# Altium schematic symbol library PCB_Project_FlightModel_EPS.SCHLIB: 82 symbols
Pins are listed as number, name and electrical type; pins without a type are passive.

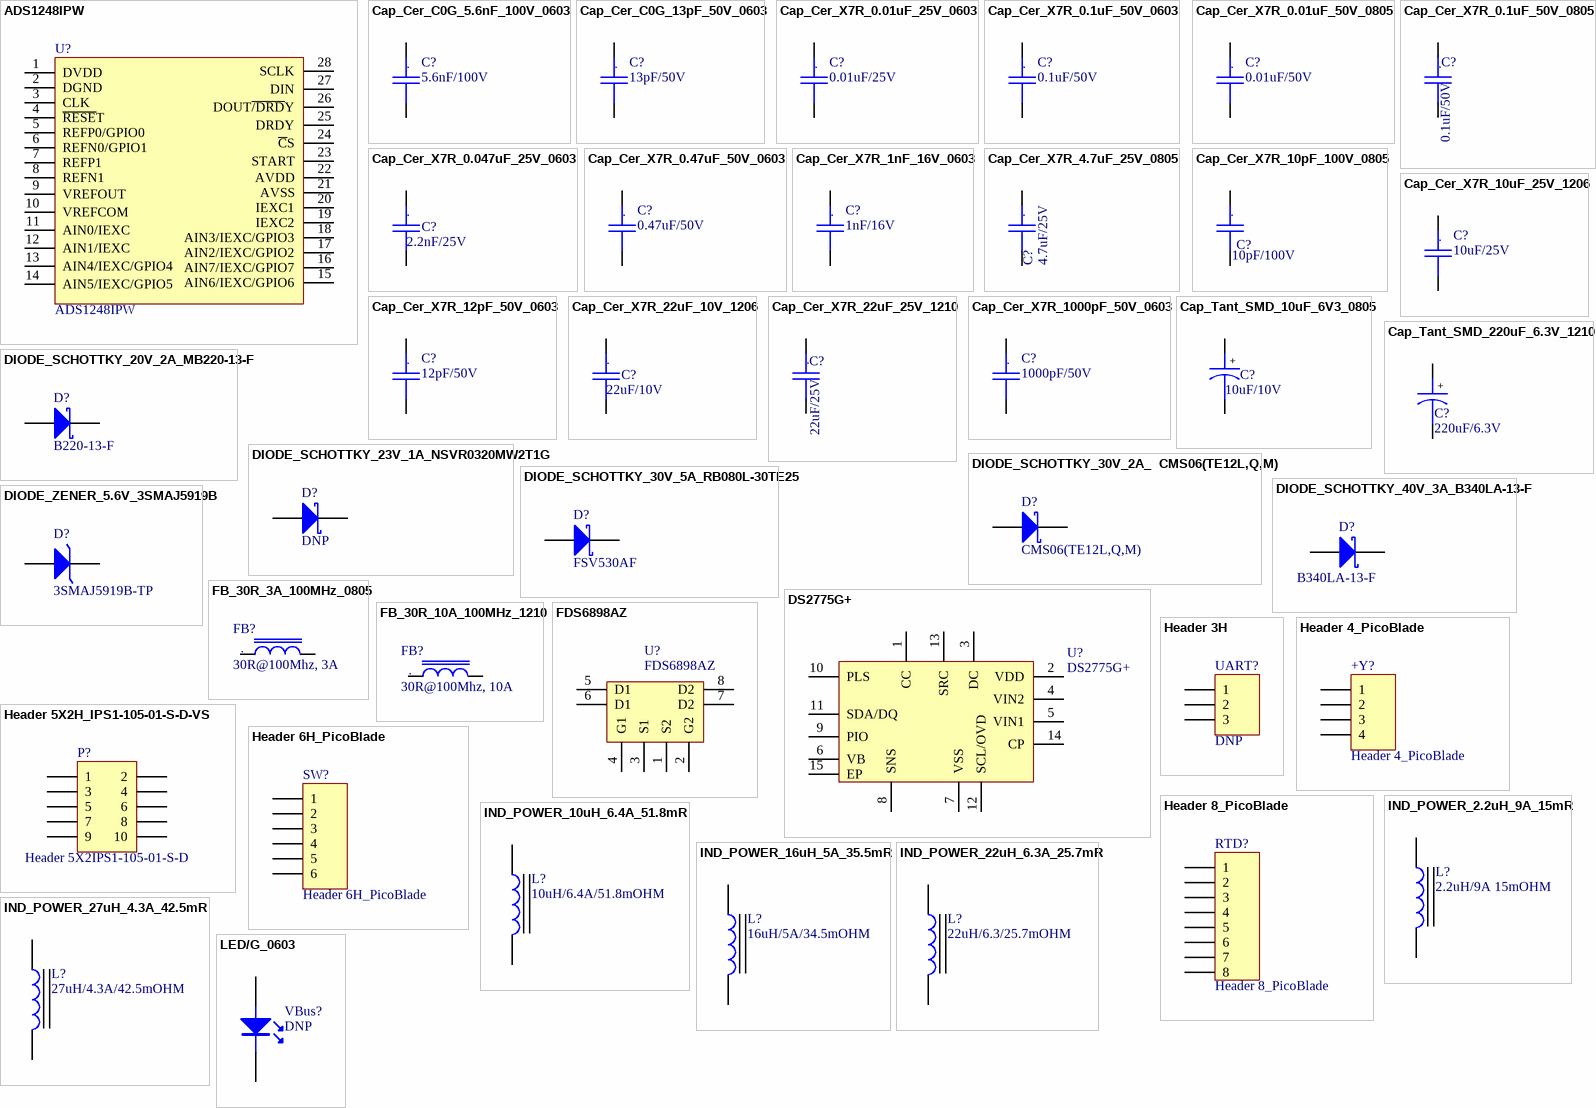
[diagram p0: symbols ADS1248IPW to LED/G_0603]

## ADS1248IPW
designator U?
24 bit ADC Differential Input, SPI, 28-pin TSSOP; Manufacturer: Texas Instruments; Part_Number: ADS1248IPWR; Number of Bits: 24; Sampling Rate (Per Second): 2k; Number of Inputs: 4, 7; Input Type: Differential, Single Ended; Configuration: MUX-PGA-ADC; Number of A/D Converters: 1; Architecture: Sigma-Delta; Reference Type: External, Internal; Voltage - Supply, Analog: 2.7 V ~ 5.25 V; Datasheet: *; Supplier: RS Online; Supplier_Link: http://uk.rs-online.com/web/p/general-purpose-adcs/7091921/?searchTerm=ads1248&relevancy-data=636F3D3226696E3D4931384E4B6E6F776E41734D504E266C753D656E266D6D3D6D61746368616C6C7061727469616C26706D3D5E5B5C707B4C7D5C707B4E647D2D2C2F255C2E5D2B2426706F3D313326736E3D592673743D4D414E5F504152545F4E554D4245522677633D424F5448267573743D6164733132343826; Supplier_Part_Number: 709-1921; Price: £7.51; Supplier 1: Digi-Key; Manufacturer Part Number: ADS1248IPW; RoHS: RoHS Compliant; Category: Integrated Circuits (ICs); Stock 1: 1835; Pricing 1: 1=10.49, 10=9.535, 25=8.822, 50=8.3402, 100=8.0994, 250=7.38576, 500=6.91298, 750=6.58295, 1000=5.96079 (EUR); Packaging: Tube; Data Interface: SPI; Ratio - S/H:ADC: -; Voltage - Supply, Digital: 2.7 V ~ 5.25 V; Features: PGA, Temperature Sensor; Operating Temperature: -40°C ~ 105°C; Package / Case: 28-TSSOP (0.173", 4.40mm Width); Supplier Device Package: 28-TSSOP; ComponentLink1URL: http://www.ti.com/lit/ds/symlink/ads1246.pdf; ComponentLink1Description: http://www.ti.com/lit/ds/symlink/ads1246.pdf; Supplier 2: Farnell; Supplier 3: Newark; Supplier Part Number 1: 296-24294-5-ND; Supplier Part Number 2: 1735557; Supplier Part Number 3: 05R0320; partnumber: ADS1248IPWR
footprint TSSOP28 (TSOP, 28-Leads, Body 6.50x4.40mm, Pitch 0.65mm, IPC Medium Density)
pins: 1 DVDD (power), 2 DGND (power), 3 CLK, 4 ~{RESE}T, 5 REFP0/GPIO0, 6 REFN0/GPIO1, 7 REFP1, 8 REFN1, 9 VREFOUT, 10 VREFCOM, 11 AIN0/IEXC, 12 AIN1/IEXC, 13 AIN4/IEXC/GPIO4, 14 AIN5/IEXC/GPIO5, 15 AIN6/IEXC/GPIO6 (power), 16 AIN7/IEXC/GPIO7 (power), 17 AIN2/IEXC/GPIO2, 18 AIN3/IEXC/GPIO3, 19 IEXC2, 20 IEXC1, 21 AVSS, 22 AVDD, 23 START, 24 ~{C}S, 25 DRDY, 26 DOUT~{/DRD}Y, 27 DIN, 28 SCLK

## Cap_Cer_C0G_5.6nF_100V_0603
designator C?, comment 5.6nF/100V
CAP CER 5.6nF 100V 0603; Partnumber: C1608C0G2A562J080AE; NCM: 8532.24.10
footprint CC0603 (TDK mlccspec_commercial_general_midvoltage_en.pdf)
pins: 1, 2
text: .

## Cap_Cer_C0G_13pF_50V_0603
designator C?, comment 13pF/50V
CAP CER 13PF 50V 0603 NP0; Partnumber: C0603C130J5GAC7867; NCM: 8532.24.10
footprint CC0603 (TDK mlccspec_commercial_general_midvoltage_en.pdf)
pins: 1, 2
text: .

## Cap_Cer_X7R_0.01uF_25V_0603
designator C?, comment 0.01uF/25V
CAP CER 0.01UF 25V 5% X7R 0603; Partnumber: 06033C103JAT4A; NCM: 8532.24.10
footprint CC0603 (TDK mlccspec_commercial_general_midvoltage_en.pdf)
pins: 1, 2
text: .

## Cap_Cer_X7R_0.1uF_50V_0603
designator C?, comment 0.1uF/50V
CAP CER 0.1UF 50V 10% X7R 0603; Partnumber: CC0603KPX7R9BB104
footprint CC0603 (TDK mlccspec_commercial_general_midvoltage_en.pdf)
pins: 1, 2
text: .

## Cap_Cer_X7R_0.01uF_50V_0805
designator C?, comment 0.01uF/50V
CAP CER 0.01uF 50V 10% X7R 0805; Partnumber: 08055C103KAT4A; NCM: 8532.24.10
footprint CC0805 (TDK mlccspec_commercial_general_midvoltage_en.pdf)
pins: 1, 2
text: .

## Cap_Cer_X7R_0.1uF_50V_0805
designator C?, comment 0.1uF/50V
CAP CER 0.1UF 50V 10% X7R 0805; Partnumber: CC0805KRX7R9BB104
footprint CC0805 (TDK mlccspec_commercial_general_midvoltage_en.pdf)
pins: 1, 2
text: .

## Cap_Cer_X7R_0.047uF_25V_0603
designator C?, comment 2.2nF/25V
CAP CER 0.047UF 25V 0603; Partnumber: GCM188R71E473KA37D; NCM: 8532.24.10
footprint CC0603 (TDK mlccspec_commercial_general_midvoltage_en.pdf)
pins: 1, 2
text: .

## Cap_Cer_X7R_0.47uF_50V_0603
designator C?, comment 0.47uF/50V
CAP CER 0.47UF 50V 10% X7R 0603; Partnumber: C1608X7R1H474K080AE; NCM: 8532.24.10
footprint CC0603 (TDK mlccspec_commercial_general_midvoltage_en.pdf)
pins: 1, 2
text: .

## Cap_Cer_X7R_1nF_16V_0603
designator C?, comment 1nF/16V
CAP CER 1nF 16V 0603 5%; Partnumber: C0603X102J4RECAUTO; NCM: 8532.24.10
footprint CC0805
pins: 1, 2
text: .

## Cap_Cer_X7R_4.7uF_25V_0805
designator C?, comment 4.7uF/25V
CAP CER 4.7uF 25V 10% X7R 0805; Partnumber: CC0805KKX7R8BB475; NCM: 8532.24.10
footprint CC0805 (TDK mlccspec_commercial_general_midvoltage_en.pdf)
pins: 1, 2
text: .

## Cap_Cer_X7R_10pF_100V_0805
designator C?, comment 10pF/100V
CAP CER 10pF 100V 0805; Partnumber: 08051A100FAT2A; NCM: 8532.24.10
footprint CC0805 (TDK mlccspec_commercial_general_midvoltage_en.pdf)
pins: 1, 2
text: .

## Cap_Cer_X7R_10uF_25V_1206
designator C?, comment 10uF/25V
CAP CER 10uF 25V 10% X7R 1206; Partnumber: GRM31CR71E106KA12L; NCM: 8532.24.10
footprint CC1206 (TDK mlccspec_commercial_general_midvoltage_en.pdf)
pins: 1, 2
text: .

## Cap_Cer_X7R_12pF_50V_0603
designator C?, comment 12pF/50V
CAP CER 12pF 50V 0603; Partnumber: GQM1885C1H120GB01D; NCM: 8532.24.10
footprint CC0603 (TDK mlccspec_commercial_general_midvoltage_en.pdf)
pins: 1, 2
text: .

## Cap_Cer_X7R_22uF_10V_1206
designator C?, comment 22uF/10V
CAP CER 22uF 10V 10% X7R 1206; Partnumber: GRM31CR71A226KE15L; NCM: 8532.24.10
footprint CC1206 (TDK mlccspec_commercial_general_midvoltage_en.pdf)
pins: 1, 2
text: .

## Cap_Cer_X7R_22uF_25V_1210
designator C?, comment 22uF/25V
CAP CER 22uF 25V 10% X7R 1210; Partnumber: GRM32ER71E226KE15L
footprint CC1210 (TDK mlccspec_commercial_general_midvoltage_en.pdf)
pins: 1, 2
text: .

## Cap_Cer_X7R_1000pF_50V_0603
designator C?, comment 1000pF/50V
CAP CER 1000pF 50V 10% X7R 0603; Partnumber: CC0603KRX7R9BB102; NCM: 8532.24.10
footprint CC0603 (TDK mlccspec_commercial_general_midvoltage_en.pdf)
pins: 1, 2
text: .

## Cap_Tant_SMD_10uF_6V3_0805
designator C?, comment 10uF/10V
CAP Tantalum 10uF 6.3V 10% 0805; Partnumber: TPSR106K006R1000; NCM: 8532.21.11
footprint CC0805_Tantalum (TDK mlccspec_commercial_general_midvoltage_en.pdf)
pins: 1, 2
text: +

## Cap_Tant_SMD_220uF_6.3V_1210
designator C?, comment 220uF/6.3V
CAP Tantalum 220uF 6.3V 20% 1210; Partnumber: 6TPE220MAZB; NCM: 8532.21.11
footprint cc1210 (TDK mlccspec_commercial_general_midvoltage_en.pdf)
pins: 1, 2
text: +

## DIODE_SCHOTTKY_20V_2A_MB220-13-F
designator D?, comment B220-13-F
DIODE SCHOTTKY 20V 2A B220-13-F; NCM: 8541.10.29; Partnumber: B220-13-F
footprint DO-214AA
pins: 1 K, 2 A

## DIODE_SCHOTTKY_23V_1A_NSVR0320MW2T1G
designator D?, comment DNP
DIODE SCHOTTKY 23V 1A SOD323F; Partnumber: NSVR0320MW2T1G; NCM: 8541.10.29
footprint SOD323F
pins: 1 K, 2 A

## DIODE_SCHOTTKY_30V_2A_  CMS06(TE12L,Q,M)
designator D?, comment CMS06(TE12L,Q,M)
DIODE SCHOTTKY 30V 2A   CMS06(TE12L,Q,M); NCM: 8541.10.29; Partnumber: CMS06(TE12L,Q,M)
footprint cms06
pins: 1 K, 2 A

## DIODE_SCHOTTKY_30V_5A_RB080L-30TE25
designator D?, comment FSV530AF
DIODE SCHOTTKY 30V 5A DO-214AA; NCM: 8541.10.29; Partnumber: FSV530AF
footprint DO-214AC
pins: 1 K, 2 A

## DIODE_SCHOTTKY_40V_3A_B340LA-13-F
designator D?, comment B340LA-13-F
DIODE SCHOTTKY 40V 3A B340LA-13-F; NCM: 8541.10.29; Partnumber: B340LA-13-F
footprint DO-214AC
pins: 1 K, 2 A

## DIODE_ZENER_5.6V_3SMAJ5919B
designator D?, comment 3SMAJ5919B-TP
DIODE ZENER 5.6V 3W DO214AC; Partnumber: 3SMAJ5919B-TP; NCM: 8541.10.29
footprint DO-214AC
pins: 1 K, 2 A

## DS2775G+
designator U?
IC FUEL GAUGE LI+ 2CELL 14-TDFN; Partnumber: DS2775G+
footprint TDFN-14-EP_3x5 (Footprint not found)
pins: 1 CC, 2 VDD, 3 DC, 4 VIN2, 5 VIN1, 6 VB, 7 VSS, 8 SNS, 9 PIO, 10 PLS, 11 SDA/DQ, 12 SCL/OVD, 13 SRC, 14 CP, 15 EP

## FB_30R_3A_100MHz_0805
designator FB?, comment 30R@100Mhz, 3A
Ferrite Bead 30 OHM 3A 100MHz; Partnumber: BLM21PG300SN1D; NCM: 8504.50.00
footprint IND0805
pins: 1, 2
text: .

## FB_30R_10A_100MHz_1210
designator FB?, comment 30R@100Mhz, 10A
Ferrite Bead 30 OHM 10A 100MHz; Partnumber: BLE32PN300SN1L; NCM: 8504.50.00
footprint IND1210
pins: 1, 2
text: .

## FDS6898AZ
designator U?
MOSFET 2N-CH 20V 9.4A 8SOIC; Partnumber: FDS6898AZ
footprint SOIC8
pins: 1 S2, 2 G2, 3 S1, 4 G1, 5 D1, 6 D1, 7 D2, 8 D2

## Header 3H
designator UART?, comment DNP
Header, 3-Pin, Right Angle; Partnumber: 4-103327-5; LatestRevisionDate: 17-Jul-2002; LatestRevisionNote: Re-released for DXP Platform.; Publisher: Altium Limited
footprint HDR 1X3
signal-integrity model Connector
pins: 1, 2, 3

## Header 4_PicoBlade
designator +Y?
Header, 4-Pin; PartNumber: 53398-0471; LatestRevisionDate: 17-Jul-2002; LatestRevisionNote: Re-released for DXP Platform.; Publisher: Altium Limited
footprint HDR4 PicoBlade
signal-integrity model Connector
pins: 1, 2, 3, 4

## Header 5X2H_IPS1-105-01-S-D-VS
designator P?, comment Header 5X2IPS1-105-01-S-D
10 Position Receptacle Connector 0.100" (2.54mm); LatestRevisionDate: 17-Jul-2002; LatestRevisionNote: Re-released for DXP Platform.; Publisher: Altium Limited; Partnumber: IPS1-105-01-S-D
footprint IPS1-105-01-S-D (10 Positions Header, Shrouded Connector 0.100" (2.54mm) Through Hole Gold)
signal-integrity model Connector
pins: 1, 2, 3, 4, 5, 6, 7, 8, 9, 10

## Header 6H_PicoBlade
designator SW?
Header, 6-Pin, Right Angle; Partnumber: 53398-0671; LatestRevisionDate: 17-Jul-2002; LatestRevisionNote: Re-released for DXP Platform.; Publisher: Altium Limited
footprint HDR6 PicoBlade
signal-integrity model Connector
pins: 1, 2, 3, 4, 5, 6

## Header 8_PicoBlade
designator RTD?
Header, 8-Pin; PartNumber: 53261-0871; LatestRevisionDate: 17-Jul-2002; LatestRevisionNote: Re-released for DXP Platform.; Publisher: Altium Limited
footprint HDR8 PicoBlade
signal-integrity model Connector
pins: 1, 2, 3, 4, 5, 6, 7, 8

## IND_POWER_2.2uH_9A_15mR
designator L?, comment 2.2uH/9A 15mOHM
INDUCTOR 2.2UH 9A SMD; Partnumber: SRP6540-2R2M; NCM: 8504.50.00
footprint Ind_SRP6540
pins: 1, 2

## IND_POWER_10uH_6.4A_51.8mR
designator L?, comment 10uH/6.4A/51.8mOHM
INDUCTOR 2.2UH 6.4A SMD; Partnumber: IHLP3232DZER100M11; NCM: 8504.50.00
footprint Ind_IHLP
pins: 1, 2

## IND_POWER_16uH_5A_35.5mR
designator L?, comment 16uH/5A/34.5mOHM
INDUCTOR 16UH 5A SMD; Partnumber: 7443251600; NCM: 8504.50.00
footprint IND_744325xxx
pins: 1, 2

## IND_POWER_22uH_6.3A_25.7mR
designator L?, comment 22uH/6.3/25.7mOHM
HC9 Series - 22uH / 6.3A / 25.7mOHM; Partnumber: HC9-220-R; NCM: 8504.50.00
footprint IND_HC9
pins: 1, 2

## IND_POWER_27uH_4.3A_42.5mR
designator L?, comment 27uH/4.3A/42.5mOHM
INDUCTOR 27UH 4.3A SMD; Partnumber: 7447798271; NCM: 8504.50.00
footprint IND_744325xxx
pins: 1, 2

## LED/G_0603
designator VBus?, comment DNP
SMD Green LED; Partnumber: 150060VS75000; NCM: 8541.40.21
footprint 0603-LED
pins: 1 A, 2 K

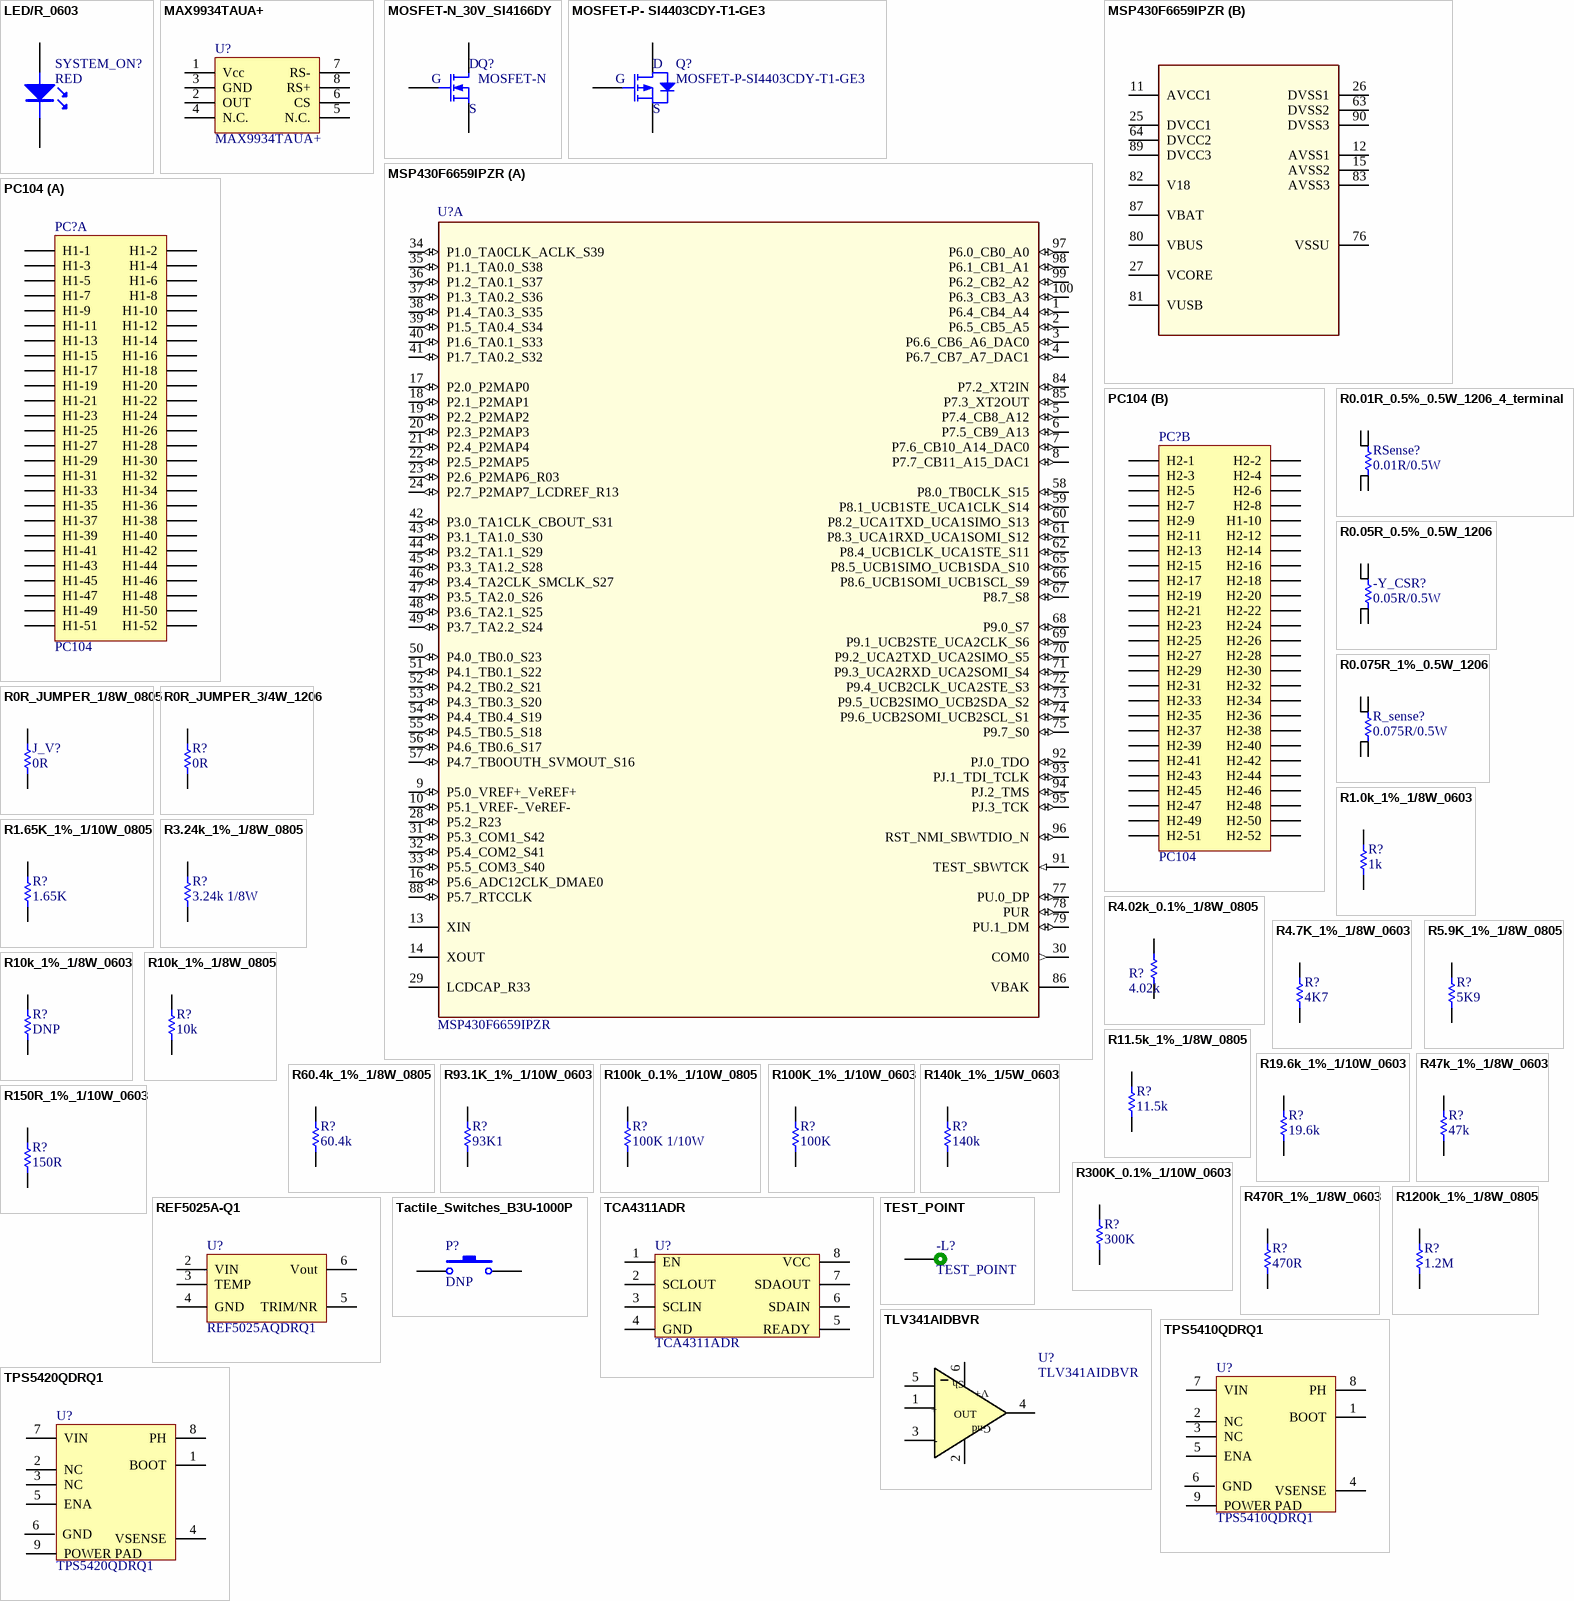
[diagram p1: symbols LED/R_0603 to TPS5420QDRQ1]

## LED/R_0603
designator SYSTEM_ON?, comment RED
SMD Red LED; Partnumber: LTST-C191KFKT; NCM: 8541.40.21
footprint 0603-LED
pins: 1 A, 2 K

## MAX9934TAUA+
designator U?
Partnumber: MAX9934TAUA+
footprint MSOP-8 (8-Lead Mini Small Outline Package [MSOP] (RM-8))
pins: 1 Vcc, 2 OUT, 3 GND, 4 N.C., 5 N.C., 6 CS, 7 RS-, 8 RS+

## MOSFET-N_30V_SI4166DY
designator Q?, comment MOSFET-N
MOSFET N-Channel 30V Vds 20V Vgs SO-8; Partnumber: SI4166DY-T1-GE3; Published: 8-Jun-2000; LatestRevisionDate: 17-Jul-2002; LatestRevisionNote: Re-released for DXP Platform.; PackageVersion: 1995/1996; PackageReference: E3; Publisher: Altium Limited; PackageDescription: TO, Flat Index; 3 In-Line, Axial Leads; Body Dia. 4.6mm; Lead Dia. 0.5 mm (max)
footprint SOIC8_Mosfet
simulation model NMOS (MOSFET-N)
pins: 1 S, 2 G, 3 D

## MOSFET-P- SI4403CDY-T1-GE3
designator Q?, comment MOSFET-P-SI4403CDY-T1-GE3
MOSFET 1.8V P-Channel 20 V, 0.0155 Ω typ., 13.4 A; Published: 8-Jun-2000; LatestRevisionDate: 17-Jul-2002; LatestRevisionNote: Re-released for DXP Platform.; PackageVersion: 1995/1996; PackageReference: E3; Publisher: Altium Limited; PackageDescription: TO, Flat Index; 3 In-Line, Axial Leads; Body Dia. 4.6mm; Lead Dia. 0.5 mm (max); Partnumber: SI4403CDY-T1-GE3
footprint SOIC8_Mosfet
simulation model NMOS (MOSFET-N)
pins: 1 S, 2 G, 3 D

## MSP430F6659IPZR
designator U?
Imported; Manufacturer: Texas Instruments; CompType: IC; PIN_COUNT: 100; Application_BuildNumber: *; PartNumber: MSP430F6659IPZR; Alternate PartNumber: MSP430F6659IPZ; PackageReference: PZ0100A; MountType: SMT; RoHS: Y; RefDes: RefDes; Type: DEV; Value: Value
footprint PZ0100A_N (Footprint not found)
part A pins: 1 P6.4_CB4_A4 (io), 2 P6.5_CB5_A5 (io), 3 P6.6_CB6_A6_DAC0 (io), 4 P6.7_CB7_A7_DAC1 (io), 5 P7.4_CB8_A12 (io), 6 P7.5_CB9_A13 (io), 7 P7.6_CB10_A14_DAC0 (io), 8 P7.7_CB11_A15_DAC1 (io), 9 P5.0_VREF+_VeREF+ (io), 10 P5.1_VREF-_VeREF- (io), 13 XIN, 14 XOUT, 16 P5.6_ADC12CLK_DMAE0 (io), 17 P2.0_P2MAP0 (io), 18 P2.1_P2MAP1 (io), 19 P2.2_P2MAP2 (io), 20 P2.3_P2MAP3 (io), 21 P2.4_P2MAP4 (io), 22 P2.5_P2MAP5 (io), 23 P2.6_P2MAP6_R03 (io), 24 P2.7_P2MAP7_LCDREF_R13 (io), 28 P5.2_R23 (io), 29 LCDCAP_R33, 30 COM0 (out), 31 P5.3_COM1_S42 (io), 32 P5.4_COM2_S41 (io), 33 P5.5_COM3_S40 (io), 34 P1.0_TA0CLK_ACLK_S39 (io), 35 P1.1_TA0.0_S38 (io), 36 P1.2_TA0.1_S37 (io), 37 P1.3_TA0.2_S36 (io), 38 P1.4_TA0.3_S35 (io), 39 P1.5_TA0.4_S34 (io), 40 P1.6_TA0.1_S33 (io), 41 P1.7_TA0.2_S32 (io), 42 P3.0_TA1CLK_CBOUT_S31 (io), 43 P3.1_TA1.0_S30 (io), 44 P3.2_TA1.1_S29 (io), 45 P3.3_TA1.2_S28 (io), 46 P3.4_TA2CLK_SMCLK_S27 (io), 47 P3.5_TA2.0_S26 (io), 48 P3.6_TA2.1_S25 (io), 49 P3.7_TA2.2_S24 (io), 50 P4.0_TB0.0_S23 (io), 51 P4.1_TB0.1_S22 (io), 52 P4.2_TB0.2_S21 (io), 53 P4.3_TB0.3_S20 (io), 54 P4.4_TB0.4_S19 (io), 55 P4.5_TB0.5_S18 (io), 56 P4.6_TB0.6_S17 (io), 57 P4.7_TB0OUTH_SVMOUT_S16 (io), 58 P8.0_TB0CLK_S15 (io), 59 P8.1_UCB1STE_UCA1CLK_S14 (io), 60 P8.2_UCA1TXD_UCA1SIMO_S13 (io), 61 P8.3_UCA1RXD_UCA1SOMI_S12 (io), 62 P8.4_UCB1CLK_UCA1STE_S11 (io), 65 P8.5_UCB1SIMO_UCB1SDA_S10 (io), 66 P8.6_UCB1SOMI_UCB1SCL_S9 (io), 67 P8.7_S8 (io), 68 P9.0_S7 (io), 69 P9.1_UCB2STE_UCA2CLK_S6 (io), 70 P9.2_UCA2TXD_UCA2SIMO_S5 (io), 71 P9.3_UCA2RXD_UCA2SOMI_S4 (io), 72 P9.4_UCB2CLK_UCA2STE_S3 (io), 73 P9.5_UCB2SIMO_UCB2SDA_S2 (io), 74 P9.6_UCB2SOMI_UCB2SCL_S1 (io), 75 P9.7_S0 (io), 77 PU.0_DP (io), 78 PUR (io), 79 PU.1_DM (io), 84 P7.2_XT2IN (io), 85 P7.3_XT2OUT (io), 86 VBAK, 88 P5.7_RTCCLK (io), 91 TEST_SBWTCK (in), 92 PJ.0_TDO (io), 93 PJ.1_TDI_TCLK (io), 94 PJ.2_TMS (io), 95 PJ.3_TCK (io), 96 RST_NMI_SBWTDIO_N (io), 97 P6.0_CB0_A0 (io), 98 P6.1_CB1_A1 (io), 99 P6.2_CB2_A2 (io), 100 P6.3_CB3_A3 (io)
part B pins: 11 AVCC1 (power), 12 AVSS1 (power), 15 AVSS2 (power), 25 DVCC1 (power), 26 DVSS1 (power), 27 VCORE (power), 63 DVSS2 (power), 64 DVCC2 (power), 76 VSSU (power), 80 VBUS (power), 81 VUSB (power), 82 V18 (power), 83 AVSS3 (power), 87 VBAT (power), 89 DVCC3 (power), 90 DVSS3 (power)

## PC104
designator PC?
Partnumber: SSW-126-01-G-D
footprint PC104 (Connector; Header; 26x4 Position)
part A pins: H1-1, H1-2, H1-3, H1-4, H1-5, H1-6, H1-7, H1-8, H1-9, H1-10, H1-11, H1-12, H1-13, H1-14, H1-15, H1-16, H1-17, H1-18, H1-19, H1-20, H1-21, H1-22, H1-23, H1-24, H1-25, H1-26, H1-27, H1-28, H1-29, H1-30, H1-31, H1-32, H1-33, H1-34, H1-35, H1-36, H1-37, H1-38, H1-39, H1-40, H1-41, H1-42, H1-43, H1-44, H1-45, H1-46, H1-47, H1-48, H1-49, H1-50, H1-51, H1-52
part B pins: H1-10, H1-32 H2-32, H1-52 H2-52, H2-1, H2-2, H2-3, H2-4, H2-5, H2-6, H2-7, H2-8, H2-9, H2-11, H2-12, H2-13, H2-14, H2-15, H2-16, H2-17, H2-18, H2-19, H2-20, H2-21, H2-22, H2-23, H2-24, H2-25, H2-26, H2-27, H2-28, H2-29, H2-30, H2-31, H2-33, H2-34, H2-35, H2-36, H2-37, H2-38, H2-39, H2-40, H2-41, H2-42, H2-43, H2-44, H2-45, H2-46, H2-47, H2-48, H2-49, H2-50, H2-51

## R0.01R_0.5%_0.5W_1206_4_terminal
designator RSense?, comment 0.01R/0.5W
Current Sense Resistors - SMD 0.01ohm .5% 4 Terminal; Partnumber: LVK12R010DER; NCM: 8533.21.20
footprint 1206 - ohmite
pins: 1, 2, 3, 4

## R0.05R_0.5%_0.5W_1206
designator -Y_CSR?, comment 0.05R/0.5W
Current Sense Resistors - SMD 0.05ohm .5% 4 Terminal; Partnumber: LVK12R050DER; NCM: 8533.21.20
footprint 1206 - ohmite
pins: 1, 2, 3, 4

## R0.075R_1%_0.5W_1206
designator R_sense?, comment 0.075R/0.5W
Current Sense Resistors - SMD 1/2W 0.075 OHMS 1% 4 Terminal; Partnumber: LVK12R075FER; NCM: 8533.21.20
footprint 1206 - ohmite
pins: 1, 2, 3, 4

## R0R_JUMPER_1/8W_0805
designator J_V?, comment 0R
RES 0R OHM 1/8W JUMPER 0805; Partnumber: CRCW08050000Z0EA
footprint 0805
pins: 1, 2

## R0R_JUMPER_3/4W_1206
designator R?, comment 0R
RES 0.0 OHM 3/4W JUMP 1206; Partnumber: HCJ1206ZT0R00
footprint 1206
pins: 1, 2

## R1.0k_1%_1/8W_0603
designator R?, comment 1k
RES 1.0K OHM 1/8W 1% 0603; Partnumber: MCT06030C1001FP500; NCM: 8533.21.20
footprint 0603
pins: 1, 2

## R1.65K_1%_1/10W_0805
designator R?, comment 1.65K
RES 1.65K OHM 1/10W 0.1% 0805; Partnumber: PCF0805R-1K65BT1; NCM: 8533.21.20
footprint 0805
pins: 1, 2

## R3.24k_1%_1/8W_0805
designator R?, comment 3.24k 1/8W
RES 3.24k OHM 1/8W 1% 0805 SMD; Partnumber: CRCW08053K24FKEA; NCM: 8533.21.20
footprint 0805
pins: 1, 2

## R4.02k_0.1%_1/8W_0805
designator R?, comment 4.02k
RES 4.02k OHM 1/8W 0.1% 0805; Partnumber: ERA-6AEB4021V; NCM: 8533.21.20
footprint 0805
pins: 1, 2

## R4.7K_1%_1/8W_0603
designator R?, comment 4K7
RES 4K7 OHM 1/8W 1% 0603; Partnumber: MCT06030C4701FP500; NCM: 8533.21.20
footprint 0603
pins: 1, 2

## R5.9K_1%_1/8W_0805
designator R?, comment 5K9
RES 5K9 OHM 1/8W 1% 0805; Partnumber: 71-CRCW0805-5.9K-E3; NCM: 8533.21.20
footprint 0805
pins: 1, 2

## R10k_1%_1/8W_0603
designator R?, comment DNP
RES 10K OHM 1/8W 1%  0603; Partnumber: MCT0603MC1002FP500; NCM: 8533.21.20
footprint 0603
pins: 1, 2

## R10k_1%_1/8W_0805
designator R?, comment 10k
RES 10K OHM 1/8W 1%  0805; Partnumber: CRCW080510K0FKEA; NCM: 8533.21.20
footprint 0805
pins: 1, 2

## R11.5k_1%_1/8W_0805
designator R?, comment 11.5k
RES 11.5k OHM 1/8W 1% 0805; Partnumber: AC0805FR-0711K5L; NCM: 8533.21.20
footprint 0805
pins: 1, 2

## R19.6k_1%_1/10W_0603
designator R?, comment 19.6k
RES 19.6k OHM 1/10W 1% 0603; Partnumber: ERJ-3EKF1962V; NCM: 8533.21.20
footprint 0603
pins: 1, 2

## R47k_1%_1/8W_0603
designator R?, comment 47k
RES 47K OHM 1/8W 0.5% 0603; Partnumber: MCT0603MD4702DP500; NCM: 8533.21.20
footprint 0603 (Footprint not found)
pins: 1, 2

## R60.4k_1%_1/8W_0805
designator R?, comment 60.4k
RES 60.4k OHM 1/8W 1% 0805; Partnumber: ERJ-6ENF6042V; NCM: 8533.21.20
footprint 0805
pins: 1, 2

## R93.1K_1%_1/10W_0603
designator R?, comment 93K1
RES 93.1K OHM 1/10W 1% 0603; Partnumber: CRCW060393K1FKEA; NCM: 8533.21.20
footprint 0603
pins: 1, 2

## R100k_0.1%_1/10W_0805
designator R?, comment 100K 1/10W
RES 100K OHM 1/10W 0.1% 0805; Partnumber: CPF-A-0805B100KE; NCM: 8533.21.20
footprint 0805
pins: 1, 2

## R100K_1%_1/10W_0603
designator R?, comment 100K
RES 100K OHM 1/10W 1% 0603; Partnumber: CRCW0603100KFKEA; NCM: 8533.21.20
footprint 0603
pins: 1, 2

## R140k_1%_1/5W_0603
designator R?, comment 140k
RES 140k OHM 1/5W 1% 0603; Partnumber: ERJ-P03F1403V; NCM: 8533.21.20
footprint 0603
pins: 1, 2

## R150R_1%_1/10W_0603
designator R?, comment 150R
RES 150R OHM 1/10W 1% 0603; Partnumber: CRCW0603150RFKEA; NCM: 8533.21.20
footprint 0603
pins: 1, 2

## R300K_0.1%_1/10W_0603
designator R?, comment 300K
RES 300K OHM 1/10W 0.1% 0603; Partnumber: RG1608P-304-B-T5; NCM: 8533.21.20
footprint 0603
pins: 1, 2

## R470R_1%_1/8W_0603
designator R?, comment 470R
RES 470R OHM 1/8W 1% 0603; Partnumber: MCT06030C4700FP500; NCM: 8533.21.20
footprint 0603
pins: 1, 2

## R1200k_1%_1/8W_0805
designator R?, comment 1.2M
RES 1200K OHM 1/8W 0.1% 0805; Partnumber: RG2012P-125-B-T5
footprint 0805
pins: 1, 2

## REF5025A-Q1
designator U?, comment REF5025AQDRQ1
REF5025A-Q1; Partnumber: REF5025AQDRQ1
footprint SOIC-8 (SOIC, 8-Leads, Body 4,89x3,90mm, Pitch 1,27mm, IPC Medium Density)
pins: 2 VIN, 3 TEMP, 4 GND, 5 TRIM/NR, 6 Vout

## Tactile_Switches_B3U-1000P
designator P?, comment DNP
Tactile Switch SPST-NO Top Actuated Surface Mount 12V 0.05A; Partnumber: B3U-1000P; Manufacturer: TE Connectivity
footprint B3U-1000P
pins: 1, 2

## TCA4311ADR
designator U?
IC SIGNAL BUFFER I2C 8SOIC; Partnumber: TCA4311ADR
footprint SOIC8
pins: 1 EN, 2 SCLOUT, 3 SCLIN, 4 GND, 5 READY, 6 SDAIN, 7 SDAOUT, 8 VCC (power)

## TEST_POINT
designator -L?  (no BOM)
Test point
footprint TEST_POINT (Footprint not found)
pins: 1

## TLV341AIDBVR
designator U?
Partnumber: TLV341AIDBVR
footprint SOT-23 6L
pins: 1 +IN, 2 Gnd, 3 -IN, 4 OUT, 5 EN, 6 V+
text: Sh; +; -

## TPS5410QDRQ1
designator U?
Partnumber: TPS5410QDRQ1
footprint SO8 Power PAD
pins: 1 BOOT, 2 NC, 3 NC, 4 VSENSE, 5 ENA, 6 GND, 7 VIN, 8 PH, 9 POWER PAD

## TPS5420QDRQ1
designator U?
Partnumber: TPS5420QDRQ1
footprint SO8 Power PAD
pins: 1 BOOT, 2 NC, 3 NC, 4 VSENSE, 5 ENA, 6 GND, 7 VIN, 8 PH, 9 POWER PAD

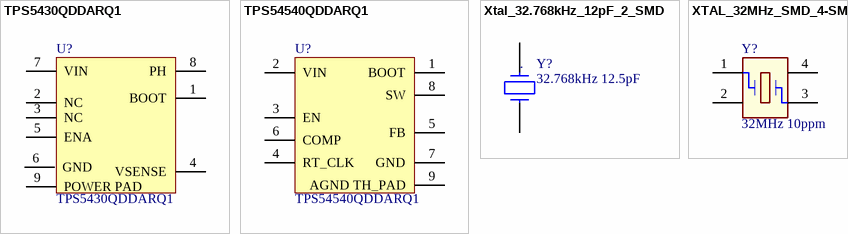
[diagram p2: symbols TPS5430QDDARQ1 to XTAL_32MHz_SMD_4-SMD]

## TPS5430QDDARQ1
designator U?
Partnumber: TPS5430QDDARQ1
footprint SO8 Power PAD
pins: 1 BOOT, 2 NC, 3 NC, 4 VSENSE, 5 ENA, 6 GND, 7 VIN, 8 PH, 9 POWER PAD

## TPS54540QDDARQ1
designator U?
Partnumber: TPS54540QDDARQ1
footprint SO8 Power PAD
pins: 1 BOOT, 2 VIN, 3 EN, 4 RT_CLK, 5 FB, 6 COMP, 7 GND, 8 SW, 9 AGND TH_PAD

## Xtal_32.768kHz_12pF_2_SMD
designator Y?, comment 32.768kHz 12.5pF
32.768kHz ±20ppm Crystal 12.5pF 70 kOhm -40°C ~ 125°C; Partnumber: ECS-.327-12.5-34S-TR; NCM: 8541.60.10
footprint ABS06 0805
pins: 1, 2
text: .

## XTAL_32MHz_SMD_4-SMD
designator Y?, comment 32MHz 10ppm
32MHz ±10ppm Crystal 10pF 60 Ohm -40°C ~ 125°C; Partnumber: ABM8X-102-32.000MHZ-T; NCM: 8541.60.10
footprint XTAL_ABM8X
pins: 1, 2, 3, 4